# EAGLE library part LCD_NOKIA_5110 (library CaliBeta-Modulos)
MODULO LCD NOKIA 5110, 84x48 pixeles 3.3V
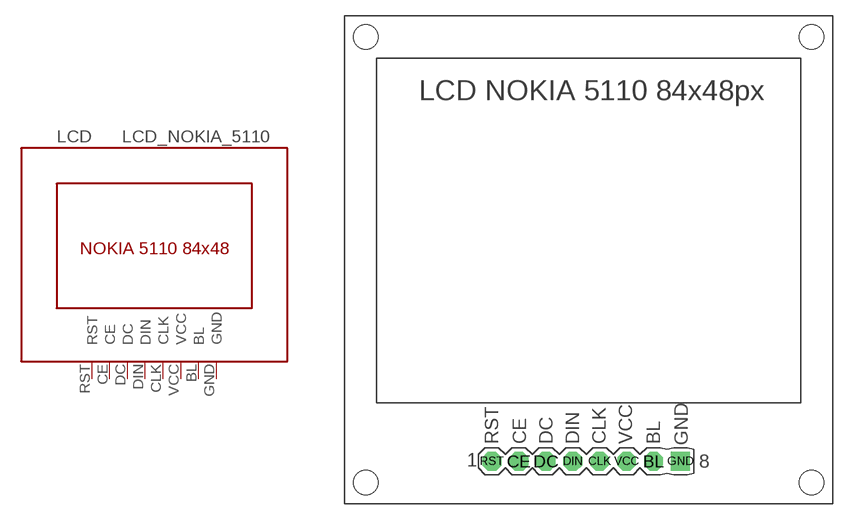
[diagram p12: symbol with the pads of NOKIA_5110_THT; footprint NOKIA_5110_THT]

Designator prefix LCD

## LCD_NOKIA_5110AZUL  [NOKIA_5110_THT]
BL  BL
CE  CE
CLK  CLK
DC  DC
DIN  DIN
GND  GND  pwr
RST  RST
VCC  VCC  pwr

## Footprint NOKIA_5110_THT (pad centres in mm)
drill 0.9 pad 1.778 octagon: BL 29.12,4; CE 16.42,4; CLK 24.04,4; DC 18.96,4; DIN 21.5,4; RST 13.88,4; VCC 26.58,4
drill 0.9 pad 1.778 square: GND 31.66,4
hole 2.3 at 2,2
hole 2.3 at 44,2
hole 2.3 at 2,44
hole 2.3 at 44,44